# EAGLE library part FAN2558SX (library Fairchild_By_element14_Batch_1)
180mA Low Voltage CMOS LDO
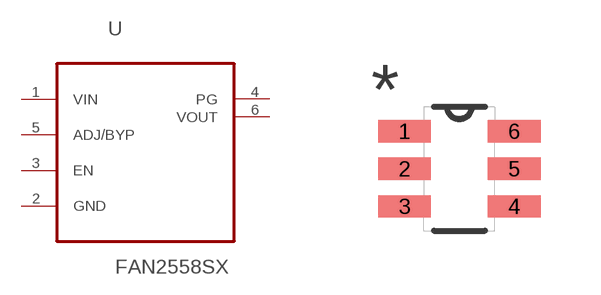
[diagram p181: symbol with the pads of SOT95P270X145-6N; footprint SOT95P270X145-6N]

Designator prefix U

## FAN2558SX (MANUFACTURER: FAN2558SX; OC_FARNELL: 1564482; OC_NEWARK: 82H9202; PACKAGE: SOT-23-6; SUPPLIER: Fairchild)  [SOT95P270X145-6N]
1  VIN  pwr
2  GND  pas
3  EN  in
4  PG  out
5  ADJ/BYP  in
6  VOUT  out

## Footprint SOT95P270X145-6N (pad centres in mm)
smd 1.321 x 0.559: 1 -1.372,0.94; 2 -1.372,0; 3 -1.372,-0.94; 4 1.372,-0.94; 5 1.372,0; 6 1.372,0.94